# EAGLE library part HRF_CONN (library HRF_CONN)
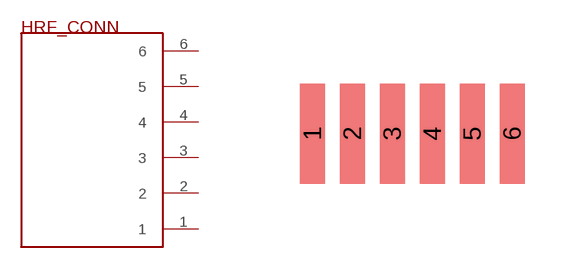
[diagram p0: symbol with the pads of HRF_CONN; footprint HRF_CONN]

Designator prefix -

## HRF_CONN  [HRF_CONN]
1  1
2  2
3  3
4  4
5  5
6  6

## Footprint HRF_CONN (pad centres in mm)
smd 0.635 x 2.5: 1 0,1; 2 1,1; 3 2,1; 4 3,1; 5 4,1; 6 5,1